# Altium footprint library OKLT6W12PC.PcbLib: 1 footprints
Each footprint in its own frame and in the unit in brackets; x right, y up, seen from the top. Pads: shape width x height; smd on the part's side, far side on the other; paste and mask are expansions set on the pad; w line width, h text height; cw(c..) or ccw(c..) is an arc to the next point about the centre after c.
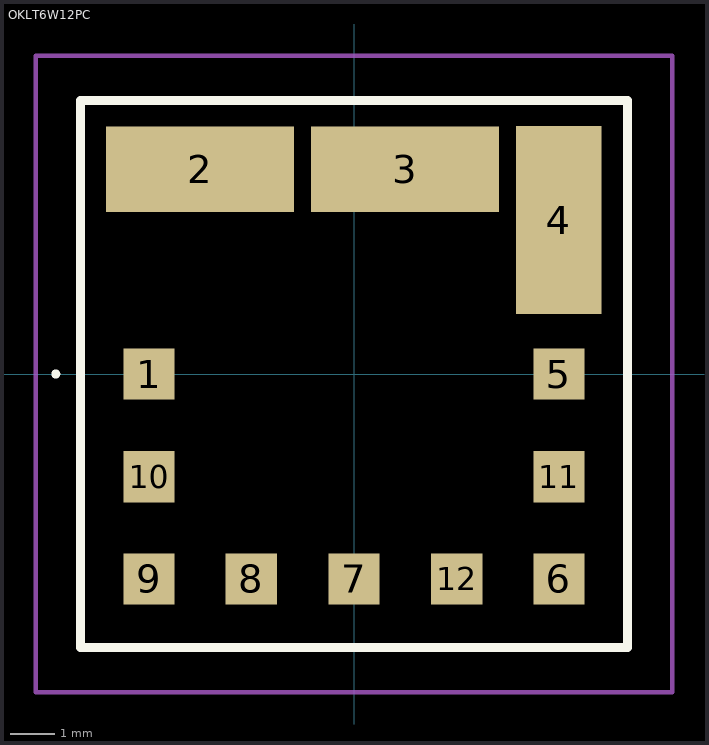
[diagram p0: the footprint, top view; thin cyan lines are the x and y axes]

## OKLT6W12PC [mm]
pads (12):
  rect 1.145x1.145 smd: 1(-4.57,0) 5(4.57,0) 6(4.57,-4.57) 7(0,-4.57) 8(-2.29,-4.57) 9(-4.57,-4.57) 10(-4.57,-2.29) 11(4.57,-2.29) 12(2.29,-4.57)
  rect 4.19x1.905 smd: 2(-3.43,4.57) 3(1.14,4.57)
  rect 1.905x4.19 smd: 4(4.57,3.43)
Top Overlay:
  lines w0.1: -6.7,0 cw(c-6.65,0) -6.6,0 ; -6.7,0 -6.7,0 ; -6.7,0 ccw(c-6.65,0) -6.6,0 ; -6.6,0 -6.6,0
  lines w0.2: -6.095,-6.095 6.095,-6.095 6.095,6.095 -6.095,6.095 -6.095,-6.095
Mechanical 15:
  lines w0.1: -6.095,-6.095 6.095,-6.095 6.095,6.095 -6.095,6.095 -6.095,-6.095
Mechanical 20:
  lines w0.1: -7.095,-7.095 7.095,-7.095 7.095,7.095 -7.095,7.095 -7.095,-7.095